# Altium footprint library LibTransformer.PCBLIB: 2 footprints
Each footprint in its own frame and in the unit in brackets; x right, y up, seen from the top. Pads: shape width x height; smd on the part's side, far side on the other; paste and mask are expansions set on the pad; w line width, h text height; cw(c..) or ccw(c..) is an arc to the next point about the centre after c.
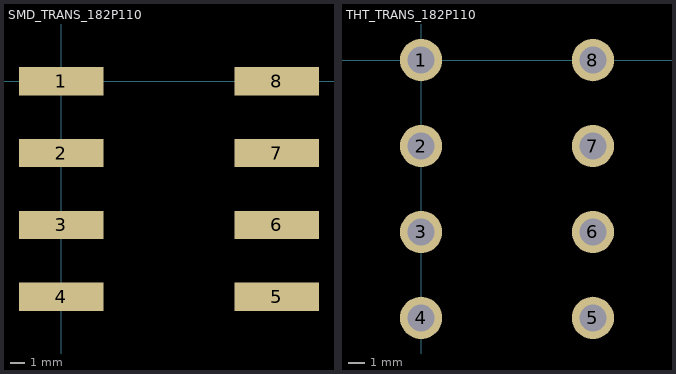
[diagram p0: the footprints below, top view; thin cyan lines are the x and y axes]

## SMD_TRANS_182P110 [mm]
pads (8):
  rect 6x2 smd: 1(0,0) 2(0,-5.08) 3(0,-10.16) 4(0,-15.24) 5(15.24,-15.24) 6(15.24,-10.16) 7(15.24,-5.08) 8(15.24,0)

## THT_TRANS_182P110 [mm]
pads (8):
  round 2.5 hole 1.6: 1(0,0) 2(0,-5.08) 3(0,-10.16) 4(0,-15.24) 5(10.16,-15.24) 6(10.16,-10.16) 7(10.16,-5.08) 8(10.16,0)